# Altium footprint library relay.PCBLIB: 291 footprints (part 8 of 19)
Each footprint in its own frame and in the unit in brackets; x right, y up, seen from the top. Pads: shape width x height; smd on the part's side, far side on the other; paste and mask are expansions set on the pad; w line width, h text height; cw(c..) or ccw(c..) is an arc to the next point about the centre after c.
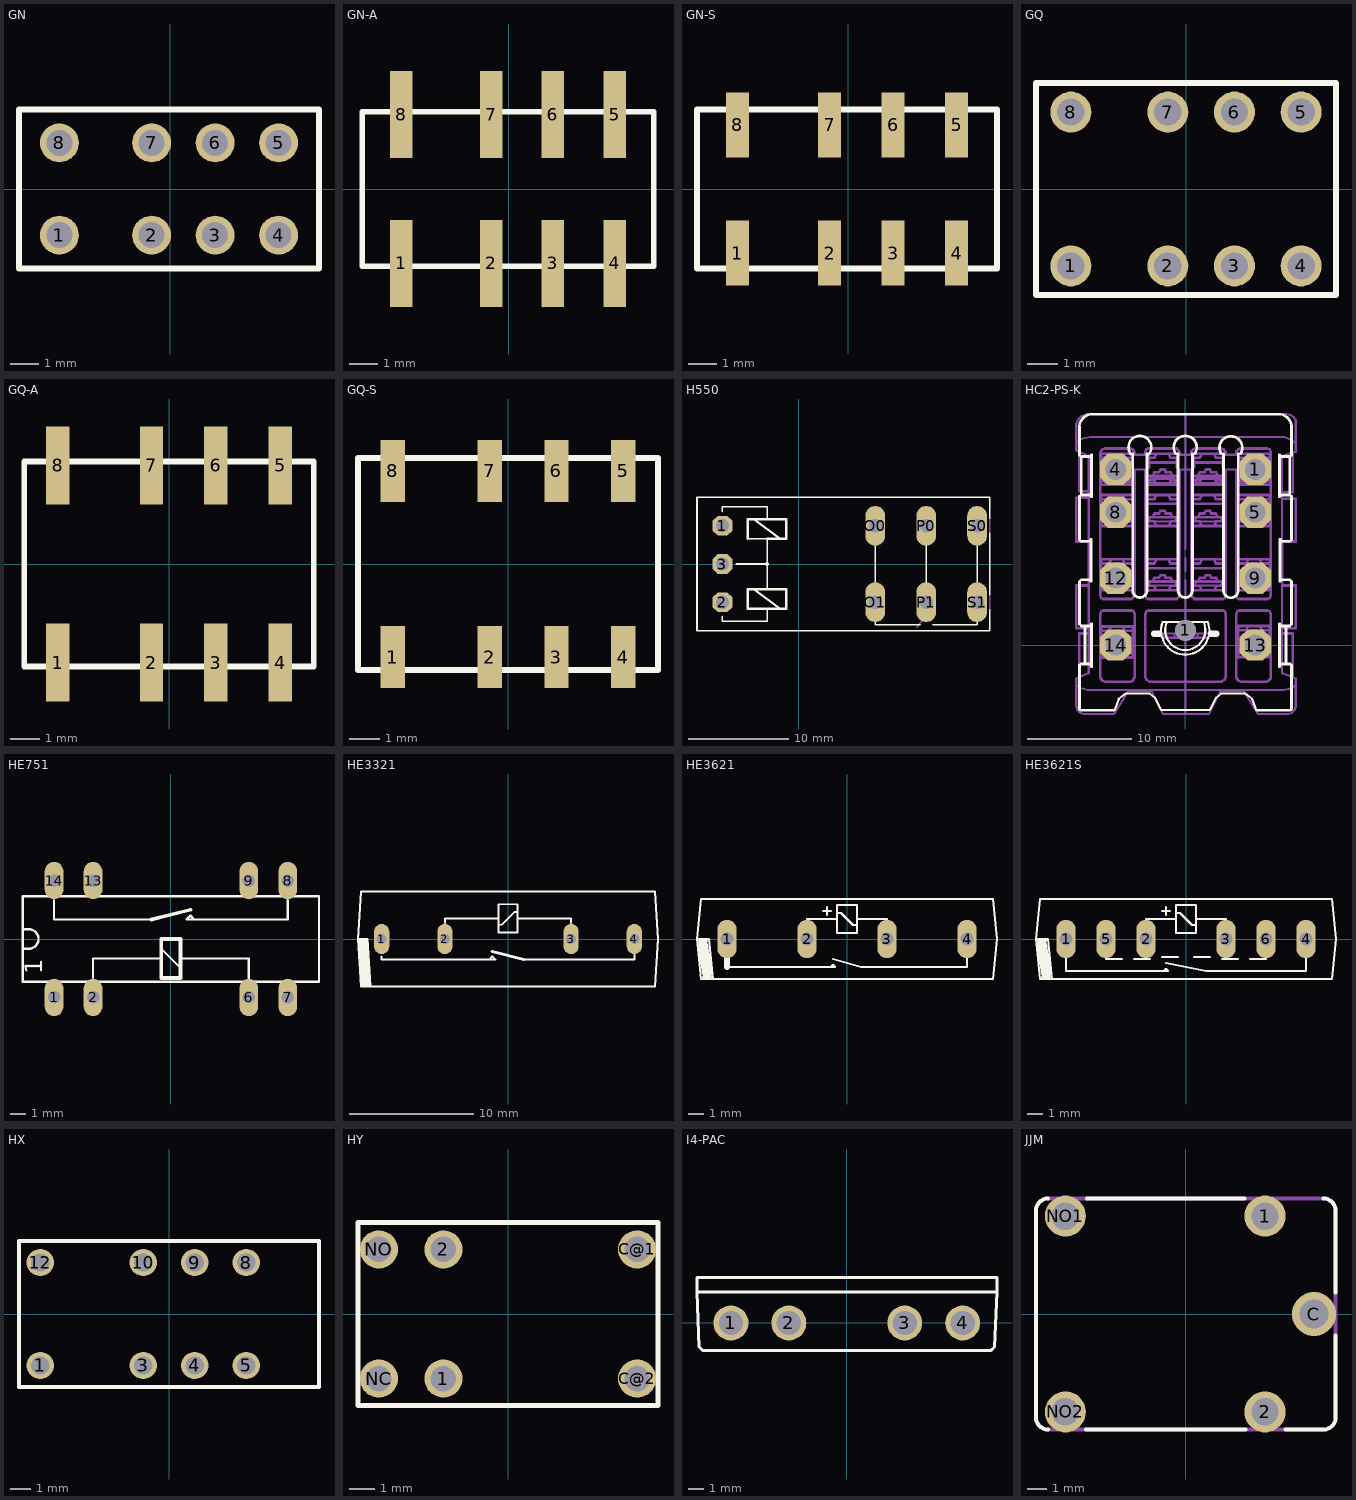
[diagram p7: the footprints below, top view; thin cyan lines are the x and y axes]

## GN [mil]
pads (8):
  round 53.15 hole 35.43: 1(-150.98,-62.99) 2(-25,-62.99) 3(61.61,-62.99) 4(148.23,-62.99) 5(148.23,62.99) 6(61.61,62.99) 7(-25,62.99) 8(-150.98,62.99)
Top Overlay:
  lines w8: -206.1,-108.27 203.35,-108.27 203.35,108.27 -206.1,108.27 -206.1,-108.27

## GN-A [mil]
pads (8):
  rect 31.5x122.05 smd: 1(-150.98,-104.33) 2(-25,-104.33) 3(61.61,-104.33) 4(148.23,-104.33) 5(148.23,104.33) 6(61.61,104.33) 7(-25,104.33) 8(-150.98,104.33)
Top Overlay:
  lines w8: -206.1,-108.27 203.35,-108.27 203.35,108.27 -206.1,108.27 -206.1,-108.27

## GN-S [mil]
pads (8):
  rect 31.5x88.58 smd: 1(-150.98,-87.6) 2(-25,-87.6) 3(61.61,-87.6) 4(148.23,-87.6) 5(148.23,87.6) 6(61.61,87.6) 7(-25,87.6) 8(-150.98,87.6)
Top Overlay:
  lines w8: -206.1,-108.27 203.35,-108.27 203.35,108.27 -206.1,108.27 -206.1,-108.27

## GQ [mil]
pads (8):
  round 53.15 hole 35.43: 1(-149.61,-100) 2(-23.62,-100) 3(62.99,-100) 4(149.61,-100) 5(149.61,100) 6(62.99,100) 7(-23.62,100) 8(-149.61,100)
Top Overlay:
  lines w8: -194.88,-137.8 194.88,-137.8 194.88,137.8 -194.88,137.8 -194.88,-137.8

## GQ-A [mil]
pads (8):
  rect 31.5x104.72 smd: 1(-149.61,-132.68) 2(-23.62,-132.68) 3(62.99,-132.68) 4(149.61,-132.68) 5(149.61,132.68) 6(62.99,132.68) 7(-23.62,132.68) 8(-149.61,132.68)
Top Overlay:
  lines w8: -194.88,-137.8 194.88,-137.8 194.88,137.8 -194.88,137.8 -194.88,-137.8

## GQ-S [mil]
pads (8):
  rect 31.5x81.1 smd: 1(-149.61,-120.87) 2(-23.62,-120.87) 3(62.99,-120.87) 4(149.61,-120.87) 5(149.61,120.87) 6(62.99,120.87) 7(-23.62,120.87) 8(-149.61,120.87)
Top Overlay:
  lines w8: -194.88,-137.8 194.88,-137.8 194.88,137.8 -194.88,137.8 -194.88,-137.8

## H550 [mil]
pads (9):
  oct 78x78 hole 52: 1(-300,150) 2(-300,-150) 3(-300,0)
  oval 78x156 hole 52: O0(300,150) O1(300,-150) P0(500,150) P1(500,-150) S0(700,150) S1(700,-150)
Top Overlay:
  circle w6: c-125,0 r5
  lines w6: -300,-205 -300,-225 -125,-225 -125,-175 ; -300,205 -300,225 -125,225 -125,175 ; -245,0 -125,0 ; -200,100 -125,100 -125,0 ; -125,-100 -125,0 ; 300,-205 300,-238 476,-238 ; 300,-95 300,95 ; 500,-95 500,95 ; 526,-238 700,-238 700,-205 ; 700,-95 700,95 ; 750,-180 750,-263 -400,-263 -400,263 750,263 750,180 ; 750,-120 750,120
  lines w10: -200,100 -200,175 -175,175 ; -125,100 -75,100 ; -175,-100 -200,-100 -200,-175 -125,-175 -75,-175 ; -175,-100 -75,-175 ; -175,-100 -125,-100 -50,-100 -50,-175 -75,-175 ; -175,175 -125,175 -50,175 -50,100 -75,100 ; -175,175 -75,100
Mechanical 16:
  lines w6: 463,-250 500,-201 500,-188 ; 750,-180 750,-120 ; 750,120 750,180
  text "1" at -100,-250 h77.5
  text "3" at -100,-25 h77.5
  text "2" at -100,200 h77.5
  text "11" at 525,50 h77.5
  text "12" at 325,-100 h77.5
  text "14" at 600,-100 h77.5
  text "H550" at 200,-185 h108.5

## HC2-PS-K [mm]
pads (9):
  round 2 hole 2: 1(0,1.4)
  oct 3x3 hole 2: 1(6.675,16.8) 4(-6.675,16.8) 5(6.675,12.7) 8(-6.675,12.7) 9(6.675,6.4) 12(-6.675,6.4) 13(6.675,0) 14(-6.675,0)
Top Overlay:
  lines w0.203: -10.101,-6.203 -10.013,-6.247 -6.778,-6.247 -6.38,-5.139 -5.715,-4.652 -3.411,-4.652 -2.924,-5.051 -2.348,-6.203 2.348,-6.203 2.924,-5.051 3.411,-4.652 5.715,-4.652 6.38,-5.139 6.778,-6.247 10.013,-6.247 10.102,-6.203 ; -2.184,2.21 ccw(c-0.025,1.384) 2.134,2.21 ; -2.171,2.215 1.728,2.215 ; -1.778,2.21 ccw(c-0.024,1.433) 1.728,2.215 ; 2.127,2.215 1.728,2.215
  lines w0.254: -10.101,-6.203 -10.146,-6.114 -10.146,-1.949 -10.013,-1.817 -9.614,-1.817 ; -9.968,14.355 -9.082,14.355 ; -9.968,18.032 -9.082,18.032 ; -9.082,-1.817 -9.614,-1.817 ; -9.082,1.816 -9.614,1.816 ; -9.038,6.114 -9.038,6.247 ; -8.994,-2.082 -8.994,2.038 ; -8.994,14.177 -8.994,18.209 ; -5.228,18.253 cw(c-4.364,18.918) -3.5,18.253 ; -5.051,8.196 -5.051,8.152 ; -5.051,18.297 -5.051,14.355 -5.051,8.152 ; -3.677,18.297 -3.677,15.329 ; -0.93,18.298 cw(c-0.022,18.918) 0.886,18.298 ; -0.709,14.354 -0.709,11.386 ; -0.709,14.399 -0.709,15.329 ; -0.709,18.297 -0.709,15.329 ; 0.665,18.297 0.665,15.329 ; 3.411,18.298 cw(c4.342,18.874) 5.272,18.298 ; 3.633,8.196 3.633,8.152 ; 3.633,14.354 3.633,11.386 ; 3.633,14.399 3.633,15.329 ; 3.633,18.297 3.633,15.329 ; 5.051,8.196 5.051,8.152 ; 5.051,18.297 5.051,14.355 5.051,8.152 ; 8.994,-2.082 8.994,2.038 ; 8.994,14.177 8.994,18.209 ; 9.038,6.114 9.038,6.247 ; 9.083,-1.817 9.614,-1.817 ; 9.083,1.816 9.614,1.816 ; 9.083,14.355 9.968,14.355 ; 9.083,18.032 9.968,18.032 ; 10.102,-6.203 10.146,-6.114 10.146,-1.949 10.013,-1.817 9.614,-1.817 ; -9.614,-1.817 -9.614,1.816 ; -9.614,1.816 -9.968,1.816 -10.146,1.994 -10.146,6.07 -9.968,6.247 -9.038,6.247 ; -9.038,6.247 -9.038,10.101 -9.215,9.924 -10.013,9.924 -10.146,10.057 -10.146,14.222 -9.968,14.399 -9.968,17.988 -10.146,18.165 -10.146,20.867 -10.101,21.222 -9.968,21.487 -9.747,21.753 -9.569,21.886 -9.304,22.019 -9.038,22.063 9.038,22.063 9.304,22.019 9.57,21.886 9.747,21.753 9.968,21.487 10.102,21.222 10.146,20.867 10.146,18.165 9.968,17.988 9.968,14.399 10.146,14.222 10.146,10.057 10.013,9.924 9.215,9.924 9.038,10.101 9.038,6.247 ; -5.051,8.152 -5.051,5.228 ccw(c-4.364,5.228) -3.677,5.228 -3.677,11.386 ; -3.677,11.386 -3.677,14.354 -3.677,15.329 ; -3.677,11.386 -3.677,11.386 ; -3.677,15.329 -3.677,15.329 ; -0.709,11.386 -0.709,11.386 ; -0.709,11.386 -0.709,5.228 ccw(c-0.022,5.228) 0.665,5.228 0.665,11.386 ; -0.709,15.329 -0.709,15.329 ; 0.665,11.386 0.665,14.354 0.665,15.329 ; 0.665,11.386 0.665,11.386 ; 0.665,15.329 0.665,15.329 ; 3.633,8.152 3.633,5.228 ccw(c4.342,5.228) 5.051,5.228 5.051,8.152 ; 3.633,8.152 3.633,11.386 ; 3.633,11.386 3.633,11.386 ; 3.633,15.329 3.633,15.329 ; 9.038,6.247 9.968,6.247 10.146,6.07 10.146,1.994 9.968,1.816 9.614,1.816 ; 9.614,-1.817 9.614,1.816
  lines w0.61: -3.013,1.063 -2.525,1.063 ; 2.481,1.063 2.968,1.063
Mechanical 13:
  drawing of 342 lines, arcs and shapes, not listed
  text "1" at 6.85,16.4 h2.6
  text "2" at 2.95,16.4 h2.6
  text "3" at -1.55,16.4 h2.6
  text "4" at -5.75,16.4 h2.6
  text "5" at 7.15,12.6 h2.6
  text "6" at 2.85,12.6 h2.6
  text "8" at -5.85,12.5 h2.6
  text "9" at 7.15,6.6 h2.6
  text "10" at 3.35,6.6 h2.6
  text "11" at -1.25,6.6 h2.6
  text "12" at -5.35,6.6 h2.6
  text "13" at 7.75,0.3 h2.6
  text "14" at -5.35,0.3 h2.6
  text "7" at -1.55,12.6 h2.6
Mechanical 16:
  drawing of 300 lines, arcs and shapes, not listed

## HE751 [mil]
pads (8):
  oval 48x96 hole 32: 1(-300,-150) 2(-200,-150) 6(200,-150) 7(300,-150) 8(300,150) 9(200,150) 13(-200,150) 14(-300,150)
Top Overlay:
  lines w6: -300,100 -300,50 -50,50 ; -200,-100 -200,-50 -25,-50 ; -25,-25 25,-75 ; 25,-50 200,-50 200,-100 ; 300,100 300,50 60,50 ; -380,-25 -365,-25 ccw(c-365,0) -365,25 -380,25 ; -380,-25 -380,-110 380,-110 380,110 -380,110 -380,25 ; -380,-25 -380,25 ; 60,50 40,50 50,60 60,50
  lines w10: -50,50 50,75 ; -25,-100 25,-100 25,-75 25,-50 25,0 -25,0 -25,-25 -25,-50 -25,-100
  text "1" at -315,-90 h77.5

## HE3321 [mil]
pads (4):
  oval 48x96 hole 32: 1(-400,0) 2(-200,0) 3(200,0) 4(400,0)
Top Overlay:
  lines w6: -400,-55 -400,-65 -60,-65 ; -200,50 -200,65 -30,65 ; 50,-65 400,-65 400,-50 ; 200,50 200,65 30,65 ; -475,0 -465,-150 -435,-150 ; -475,0 -465,150 465,150 475,0 465,-150 -435,-150 ; -475,0 -445,0 -435,-150 ; -60,-65 -40,-65 -50,-55 -60,-65 ; -30,45 -30,20 30,20 30,65 ; -30,45 -30,65 ; -30,45 -20,45 20,85 30,85 ; -30,65 -30,110 30,110 30,85 ; 30,65 30,85
  lines w10: -470,-5 -450,-5 ; -460,-145 -440,-145 ; -50,-40 50,-65
  lines w32: -460,-15 -450,-135

## HE3621 [mil]
pads (4):
  oval 48x96 hole 32: 1(-300,0) 2(-100,0) 3(100,0) 4(300,0)
Top Overlay:
  lines w6: -370,-5 -350,-5 ; -360,-95 -340,-95 ; -300,-70 -40,-70 ; -100,40 -100,50 -25,50 ; -60,70 -40,70 ; -50,60 -50,80 ; -35,-50 35,-70 300,-70 300,-45 ; 100,40 100,50 25,50 ; -375,0 -365,-100 -335,-100 ; -375,0 -365,100 365,100 375,0 365,-100 -335,-100 ; -375,0 -345,0 -335,-100 ; -40,-70 -30,-70 -35,-65 -40,-70 ; -25,50 -25,65 ; -25,50 -25,15 25,15 25,35 ; -25,65 -25,85 25,85 25,50 ; -25,65 -15,65 15,35 25,35 ; 25,35 25,50
  lines w16: -300,-70 -300,-45
  lines w26: -360,-15 -350,-85

## HE3621S [mil]
pads (6):
  oval 48x96 hole 32: 1(-300,0) 2(-100,0) 3(100,0) 4(300,0) 5(-200,0) 6(200,0)
Top Overlay:
  lines w6: -370,-5 -350,-5 ; -360,-95 -340,-95 ; -300,-45 -300,-80 -55,-80 ; -200,-45 -200,-50 -160,-50 ; -130,-50 -90,-50 ; -100,40 -100,50 -25,50 ; -60,-45 -20,-45 ; -60,70 -40,70 ; -50,-60 50,-80 300,-80 300,-45 ; -50,60 -50,80 ; 20,-45 60,-45 ; 90,-50 130,-50 ; 100,40 100,50 25,50 ; 160,-50 200,-50 200,-45 ; -375,0 -365,100 365,100 375,0 365,-100 -335,-100 ; -375,0 -365,-100 -335,-100 ; -375,0 -345,0 -335,-100 ; -55,-80 -45,-80 -50,-75 -55,-80 ; -25,50 -25,65 ; -25,50 -25,15 25,15 25,35 ; -25,65 -25,85 25,85 25,50 ; -25,65 -15,65 15,35 25,35 ; 25,35 25,50
  lines w26: -360,-15 -350,-85

## HX [mil]
pads (8):
  round 53.15 hole 35.43: 1(-250,-100) 3(-50,-100) 4(50,-100) 5(150,-100) 8(150,100) 9(50,100) 10(-50,100) 12(-250,100)
Top Overlay:
  lines w8: -291.34,-141.73 291.34,-141.73 291.34,141.73 -291.34,141.73 -291.34,-141.73

## HY [mm]
pads (6):
  round 1.5 hole 1: 1(-2.54,-2.54) 2(-2.54,2.54) C@1(5.08,2.54) C@2(5.08,-2.54) NC(-5.08,-2.54) NO(-5.08,2.54)
Top Overlay:
  lines w0.203: -5.9,-3.6 5.9,-3.6 5.9,3.6 -5.9,3.6 -5.9,-3.6

## I4-PAC [mil]
pads (4):
  round 90.55 hole 62.99: 1(-300,0) 2(-150,0) 3(150,0) 4(300,0)
Top Overlay:
  lines w8: -387.8,79.72 -382.26,-62.19 -372.27,-71.85 372.33,-71.85 382.32,-62.32 388.78,79.72 ; -387.8,79.72 -387.8,118.11 388.78,118.11 388.78,79.72 ; -387.8,79.72 388.78,79.72

## JJM [mm]
pads (5):
  round 2.1 hole 1.4: 1(4.05,5) 2(4.05,-5) NO1(-6.15,5) NO2(-6.15,-5)
  round 2.25 hole 1.5: C(6.55,0)
Top Overlay:
  lines w0.203: -7.04,-5.9 cw(c-7.04,-5.29) -7.65,-5.29 -7.65,5.29 cw(c-7.04,5.29) -7.04,5.9 ; -5.1,-5.9 3.05,-5.9 ; -5.05,5.9 2.95,5.9 ; -5,5.9 2.95,5.9 ; 3,5.9 2.95,5.9 ; 5.1,-5.9 7.05,-5.9 ; 7.04,-5.9 ccw(c7.045,-5.287) 7.05,-5.9 ; 7.04,5.9 cw(c7.04,5.29) 7.65,5.29 ; 7.65,-5.29 cw(c7.04,-5.29) 7.05,-5.9 ; 7.65,-5.25 7.65,-1.1 ; 7.65,1.1 7.65,5.25
Mechanical 16:
  lines w0.203: -7.04,-5.9 7.04,-5.9 ; -7.04,5.9 7.04,5.9 ; 7.65,-5.29 7.65,5.29